# EAGLE library part GY-9250 (library GY-9250)
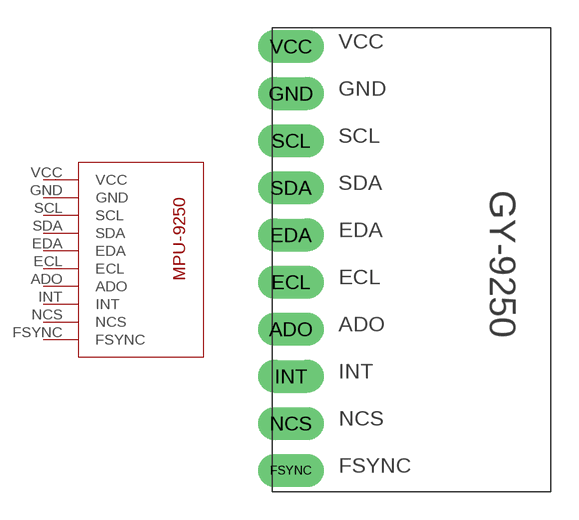
[diagram p0: symbol with the pads of GY-9250; footprint GY-9250]

Designator prefix -

## GY-9250  [GY-9250]
ADO  ADO
ECL  ECL
EDA  EDA
FSYNC  FSYNC
GND  GND
INT  INT
NCS  NCS
SCL  SCL
SDA  SDA
VCC  VCC

## Footprint GY-9250 (pad centres in mm)
drill 0.799 pad 1.778 long: ADO 1,8.76; ECL 1,11.3; EDA 1,13.84; FSYNC 1,1.14; GND 1,21.46; INT 1,6.22; NCS 1,3.68; SCL 1,18.92; SDA 1,16.38; VCC 1,24